# Altium footprint library BQ76922RSNR.PcbLib: 3 footprints
Each footprint in its own frame and in the unit in brackets; x right, y up, seen from the top. Pads: shape width x height; smd on the part's side, far side on the other; paste and mask are expansions set on the pad; w line width, h text height; cw(c..) or ccw(c..) is an arc to the next point about the centre after c.
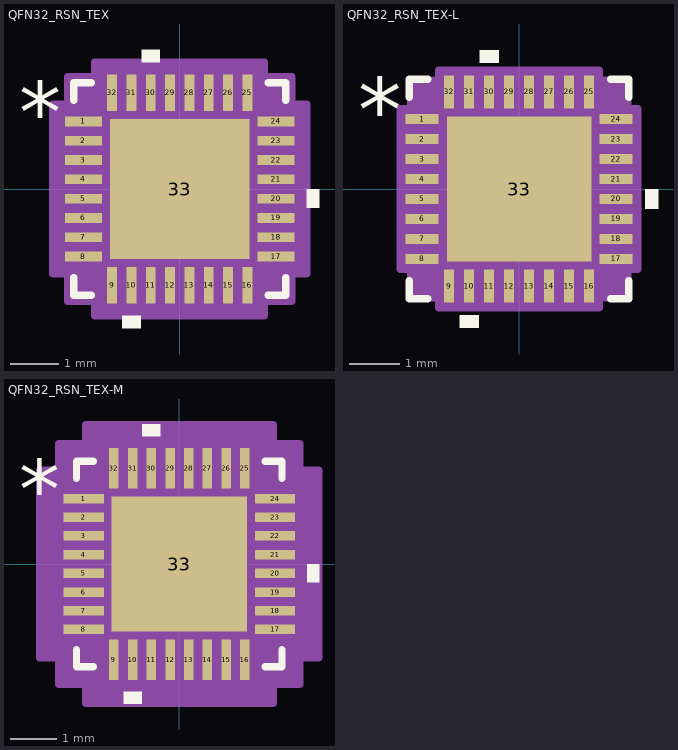
[diagram p0: the footprints below, top view; thin cyan lines are the x and y axes]

## QFN32_RSN_TEX [mil]
pads (33):
  rect 30x8 smd paste+0 mask+0: 1(-78.5,55.12) 2(-78.5,39.38) 3(-78.5,23.62) 4(-78.5,7.88) 5(-78.5,-7.88) 6(-78.5,-23.62) 7(-78.5,-39.38) 8(-78.5,-55.12) 17(78.5,-55.12) 18(78.5,-39.38) 19(78.5,-23.62) 20(78.5,-7.88) 21(78.5,7.88) 22(78.5,23.62) 23(78.5,39.38) 24(78.5,55.12)
  rect 8x30 smd paste+0 mask+0: 9(-55.12,-78.5) 10(-39.38,-78.5) 11(-23.62,-78.5) 12(-7.88,-78.5) 13(7.88,-78.5) 14(23.62,-78.5) 15(39.38,-78.5) 16(55.12,-78.5) 25(55.12,78.5) 26(39.38,78.5) 27(23.62,78.5) 28(7.88,78.5) 29(-7.88,78.5) 30(-23.62,78.5) 31(-39.38,78.5) 32(-55.12,78.5)
  rect 114x114 smd paste-57 mask+0: 33(0,0)
Top Overlay:
  region: -31.88,-103.5 -46.88,-103.5 -46.88,-113.5 -31.88,-113.5
  region: 103.5,-0.38 113.5,-0.38 113.5,-15.38 103.5,-15.38
  region: -16.12,103.5 -31.12,103.5 -31.12,113.5 -16.12,113.5
  lines w6: -86.5,-72.22 -86.5,-86.5 -72.22,-86.5 ; -86.5,72.22 -86.5,86.5 -72.22,86.5 ; 72.22,-86.5 86.5,-86.5 86.5,-72.22 ; 72.22,86.5 86.5,86.5 86.5,72.22
  text "*" at -131,38 h50
Top Paste:
  region: -3.94,53.06 -53.06,53.06 -53.06,3.94 -3.94,3.94
  region: -3.94,-3.94 -53.06,-3.94 -53.06,-53.06 -3.94,-53.06
  region: 53.06,53.06 3.94,53.06 3.94,3.94 53.06,3.94
  region: 53.06,-3.94 3.94,-3.94 3.94,-53.06 53.06,-53.06
Mechanical 13:
  lines w1: -81.5,31.5 -31.5,81.5 ; -81.5,-81.5 81.5,-81.5 ; -81.5,-81.5 -81.5,81.5 ; -81.5,-81.5 -81.5,-81.5 ; -81.5,-60.12 -81.5,-50.12 ; -81.5,-60.12 -81.5,-50.12 ; -81.5,-60.12 -81.5,-60.12 ; -81.5,-50.12 -81.5,-50.12 ; -81.5,-44.38 -81.5,-34.38 ; -81.5,-44.38 -81.5,-34.38 ; -81.5,-44.38 -81.5,-44.38 ; -81.5,-34.38 -81.5,-34.38 ; -81.5,-28.62 -81.5,-18.62 ; -81.5,-28.62 -81.5,-18.62 ; -81.5,-28.62 -81.5,-28.62 ; -81.5,-18.62 -81.5,-18.62 ; -81.5,-12.88 -81.5,-2.88 ; -81.5,-12.88 -81.5,-2.88 ; -81.5,-12.88 -81.5,-12.88 ; -81.5,-2.88 -81.5,-2.88 ; -81.5,2.88 -81.5,12.88 ; -81.5,2.88 -81.5,12.88 ; -81.5,2.88 -81.5,2.88 ; -81.5,12.88 -81.5,12.88 ; -81.5,18.62 -81.5,28.62 ; -81.5,18.62 -81.5,28.62 ; -81.5,18.62 -81.5,18.62 ; -81.5,28.62 -81.5,28.62 ; -81.5,34.38 -81.5,44.38 ; -81.5,34.38 -81.5,44.38 ; -81.5,34.38 -81.5,34.38 ; -81.5,44.38 -81.5,44.38 ; -81.5,50.12 -81.5,60.12 ; -81.5,50.12 -81.5,60.12 ; -81.5,50.12 -81.5,50.12 ; -81.5,60.12 -81.5,60.12 ; -81.5,81.5 81.5,81.5 ; -81.5,81.5 -81.5,81.5 ; -60.12,-81.5 -50.12,-81.5 ; -60.12,-81.5 -60.12,-81.5 ; -60.12,-81.5 -50.12,-81.5 ; -60.12,81.5 -50.12,81.5 ; -60.12,81.5 -50.12,81.5 ; -60.12,81.5 -60.12,81.5 ; -50.12,-81.5 -50.12,-81.5 ; -50.12,81.5 -50.12,81.5 ; -44.38,-81.5 -34.38,-81.5 ; -44.38,-81.5 -44.38,-81.5 ; -44.38,-81.5 -34.38,-81.5 ; -44.38,81.5 -34.38,81.5 ; -44.38,81.5 -34.38,81.5 ; -44.38,81.5 -44.38,81.5 ; -34.38,-81.5 -34.38,-81.5 ; -34.38,81.5 -34.38,81.5 ; -28.62,-81.5 -18.62,-81.5 ; -28.62,-81.5 -28.62,-81.5 ; -28.62,-81.5 -18.62,-81.5 ; -28.62,81.5 -18.62,81.5 ; -28.62,81.5 -18.62,81.5 ; -28.62,81.5 -28.62,81.5 ; -18.62,-81.5 -18.62,-81.5 ; -18.62,81.5 -18.62,81.5 ; -12.88,-81.5 -2.88,-81.5 ; -12.88,-81.5 -12.88,-81.5 ; -12.88,-81.5 -2.88,-81.5 ; -12.88,81.5 -2.88,81.5 ; -12.88,81.5 -2.88,81.5 ; -12.88,81.5 -12.88,81.5 ; -2.88,-81.5 -2.88,-81.5 ; -2.88,81.5 -2.88,81.5 ; 2.88,-81.5 12.88,-81.5 ; 2.88,-81.5 2.88,-81.5 ; 2.88,-81.5 12.88,-81.5 ; 2.88,81.5 12.88,81.5 ; 2.88,81.5 12.88,81.5 ; 2.88,81.5 2.88,81.5 ; 12.88,-81.5 12.88,-81.5 ; 12.88,81.5 12.88,81.5 ; 18.62,-81.5 28.62,-81.5 ; 18.62,-81.5 18.62,-81.5 ; 18.62,-81.5 28.62,-81.5 ; 18.62,81.5 28.62,81.5 ; 18.62,81.5 28.62,81.5 ; 18.62,81.5 18.62,81.5 ; 28.62,-81.5 28.62,-81.5 ; 28.62,81.5 28.62,81.5 ; 34.38,-81.5 44.38,-81.5 ; 34.38,-81.5 34.38,-81.5 ; 34.38,-81.5 44.38,-81.5 ; 34.38,81.5 44.38,81.5 ; 34.38,81.5 44.38,81.5 ; 34.38,81.5 34.38,81.5 ; 44.38,-81.5 44.38,-81.5 ; 44.38,81.5 44.38,81.5 ; 50.12,-81.5 60.12,-81.5 ; 50.12,-81.5 50.12,-81.5 ; 50.12,-81.5 60.12,-81.5 ; 50.12,81.5 60.12,81.5 ; 50.12,81.5 60.12,81.5 ; 50.12,81.5 50.12,81.5 ; 60.12,-81.5 60.12,-81.5 ; 60.12,81.5 60.12,81.5 ; 81.5,-81.5 81.5,-81.5 ; 81.5,-81.5 81.5,81.5 ; 81.5,-60.12 81.5,-50.12 ; 81.5,-60.12 81.5,-60.12 ; 81.5,-60.12 81.5,-50.12 ; 81.5,-50.12 81.5,-50.12 ; 81.5,-44.38 81.5,-34.38 ; 81.5,-44.38 81.5,-44.38 ; 81.5,-44.38 81.5,-34.38 ; 81.5,-34.38 81.5,-34.38 ; 81.5,-28.62 81.5,-18.62 ; 81.5,-28.62 81.5,-28.62 ; 81.5,-28.62 81.5,-18.62 ; 81.5,-18.62 81.5,-18.62 ; 81.5,-12.88 81.5,-2.88 ; 81.5,-12.88 81.5,-12.88 ; 81.5,-12.88 81.5,-2.88 ; 81.5,-2.88 81.5,-2.88 ; 81.5,2.88 81.5,12.88 ; 81.5,2.88 81.5,2.88 ; 81.5,2.88 81.5,12.88 ; 81.5,12.88 81.5,12.88 ; 81.5,18.62 81.5,28.62 ; 81.5,18.62 81.5,18.62 ; 81.5,18.62 81.5,28.62 ; 81.5,28.62 81.5,28.62 ; 81.5,34.38 81.5,44.38 ; 81.5,34.38 81.5,34.38 ; 81.5,34.38 81.5,44.38 ; 81.5,44.38 81.5,44.38 ; 81.5,50.12 81.5,60.12 ; 81.5,50.12 81.5,50.12 ; 81.5,50.12 81.5,60.12 ; 81.5,60.12 81.5,60.12 ; 81.5,81.5 81.5,81.5
  text "*" at -76,38 h50
Mechanical 15:
  region: -69.12,-91.5 -91.5,-91.5 -91.5,-69.12 -103.5,-69.12 -103.5,69.12 -91.5,69.12 -91.5,91.5 -69.12,91.5 -69.12,103.5 69.12,103.5 69.12,91.5 91.5,91.5 91.5,69.12 103.5,69.12 103.5,-69.12 91.5,-69.12 91.5,-91.5 69.12,-91.5 69.12,-103.5 -69.12,-103.5
  lines w6: -103.5,-69.12 -91.5,-69.12 -91.5,-91.5 -69.12,-91.5 -69.12,-103.5 69.12,-103.5 69.12,-91.5 91.5,-91.5 91.5,-69.12 103.5,-69.12 103.5,69.12 91.5,69.12 91.5,91.5 69.12,91.5 69.12,103.5 -69.12,103.5 -69.12,91.5 -91.5,91.5 -91.5,69.12 -103.5,69.12 -103.5,-69.12
3D body "QFN32_RSN_TEX.step": height 32.09, standoff 0, extent -81.5,-81.5 81.5,81.5

## QFN32_RSN_TEX-L [mil]
pads (33):
  rect 26x8 smd paste+0 mask+0: 1(-76.5,55.12) 2(-76.5,39.38) 3(-76.5,23.62) 4(-76.5,7.88) 5(-76.5,-7.88) 6(-76.5,-23.62) 7(-76.5,-39.38) 8(-76.5,-55.12) 17(76.5,-55.12) 18(76.5,-39.38) 19(76.5,-23.62) 20(76.5,-7.88) 21(76.5,7.88) 22(76.5,23.62) 23(76.5,39.38) 24(76.5,55.12)
  rect 8x26 smd paste+0 mask+0: 9(-55.12,-76.5) 10(-39.38,-76.5) 11(-23.62,-76.5) 12(-7.88,-76.5) 13(7.88,-76.5) 14(23.62,-76.5) 15(39.38,-76.5) 16(55.12,-76.5) 25(55.12,76.5) 26(39.38,76.5) 27(23.62,76.5) 28(7.88,76.5) 29(-7.88,76.5) 30(-23.62,76.5) 31(-39.38,76.5) 32(-55.12,76.5)
  rect 114x114 smd paste-57 mask+0: 33(0,0)
Top Overlay:
  region: -31.88,-99.5 -46.88,-99.5 -46.88,-109.5 -31.88,-109.5
  region: 99.5,-0.38 109.5,-0.38 109.5,-15.38 99.5,-15.38
  region: -16.12,99.5 -31.12,99.5 -31.12,109.5 -16.12,109.5
  lines w6: -86.5,-72.22 -86.5,-86.5 -72.22,-86.5 ; -86.5,72.22 -86.5,86.5 -72.22,86.5 ; 72.22,-86.5 86.5,-86.5 86.5,-72.22 ; 72.22,86.5 86.5,86.5 86.5,72.22
  text "*" at -127,38 h50
Top Paste:
  region: -3.94,53.06 -53.06,53.06 -53.06,3.94 -3.94,3.94
  region: -3.94,-3.94 -53.06,-3.94 -53.06,-53.06 -3.94,-53.06
  region: 53.06,53.06 3.94,53.06 3.94,3.94 53.06,3.94
  region: 53.06,-3.94 3.94,-3.94 3.94,-53.06 53.06,-53.06
Mechanical 13:
  lines w1: -81.5,31.5 -31.5,81.5 ; -81.5,-81.5 81.5,-81.5 ; -81.5,-81.5 -81.5,81.5 ; -81.5,-81.5 -81.5,-81.5 ; -81.5,-60.12 -81.5,-50.12 ; -81.5,-60.12 -81.5,-50.12 ; -81.5,-60.12 -81.5,-60.12 ; -81.5,-50.12 -81.5,-50.12 ; -81.5,-44.38 -81.5,-34.38 ; -81.5,-44.38 -81.5,-34.38 ; -81.5,-44.38 -81.5,-44.38 ; -81.5,-34.38 -81.5,-34.38 ; -81.5,-28.62 -81.5,-18.62 ; -81.5,-28.62 -81.5,-18.62 ; -81.5,-28.62 -81.5,-28.62 ; -81.5,-18.62 -81.5,-18.62 ; -81.5,-12.88 -81.5,-2.88 ; -81.5,-12.88 -81.5,-2.88 ; -81.5,-12.88 -81.5,-12.88 ; -81.5,-2.88 -81.5,-2.88 ; -81.5,2.88 -81.5,12.88 ; -81.5,2.88 -81.5,12.88 ; -81.5,2.88 -81.5,2.88 ; -81.5,12.88 -81.5,12.88 ; -81.5,18.62 -81.5,28.62 ; -81.5,18.62 -81.5,28.62 ; -81.5,18.62 -81.5,18.62 ; -81.5,28.62 -81.5,28.62 ; -81.5,34.38 -81.5,44.38 ; -81.5,34.38 -81.5,44.38 ; -81.5,34.38 -81.5,34.38 ; -81.5,44.38 -81.5,44.38 ; -81.5,50.12 -81.5,60.12 ; -81.5,50.12 -81.5,60.12 ; -81.5,50.12 -81.5,50.12 ; -81.5,60.12 -81.5,60.12 ; -81.5,81.5 81.5,81.5 ; -81.5,81.5 -81.5,81.5 ; -60.12,-81.5 -50.12,-81.5 ; -60.12,-81.5 -60.12,-81.5 ; -60.12,-81.5 -50.12,-81.5 ; -60.12,81.5 -50.12,81.5 ; -60.12,81.5 -50.12,81.5 ; -60.12,81.5 -60.12,81.5 ; -50.12,-81.5 -50.12,-81.5 ; -50.12,81.5 -50.12,81.5 ; -44.38,-81.5 -34.38,-81.5 ; -44.38,-81.5 -44.38,-81.5 ; -44.38,-81.5 -34.38,-81.5 ; -44.38,81.5 -34.38,81.5 ; -44.38,81.5 -34.38,81.5 ; -44.38,81.5 -44.38,81.5 ; -34.38,-81.5 -34.38,-81.5 ; -34.38,81.5 -34.38,81.5 ; -28.62,-81.5 -18.62,-81.5 ; -28.62,-81.5 -28.62,-81.5 ; -28.62,-81.5 -18.62,-81.5 ; -28.62,81.5 -18.62,81.5 ; -28.62,81.5 -18.62,81.5 ; -28.62,81.5 -28.62,81.5 ; -18.62,-81.5 -18.62,-81.5 ; -18.62,81.5 -18.62,81.5 ; -12.88,-81.5 -2.88,-81.5 ; -12.88,-81.5 -12.88,-81.5 ; -12.88,-81.5 -2.88,-81.5 ; -12.88,81.5 -2.88,81.5 ; -12.88,81.5 -2.88,81.5 ; -12.88,81.5 -12.88,81.5 ; -2.88,-81.5 -2.88,-81.5 ; -2.88,81.5 -2.88,81.5 ; 2.88,-81.5 12.88,-81.5 ; 2.88,-81.5 2.88,-81.5 ; 2.88,-81.5 12.88,-81.5 ; 2.88,81.5 12.88,81.5 ; 2.88,81.5 12.88,81.5 ; 2.88,81.5 2.88,81.5 ; 12.88,-81.5 12.88,-81.5 ; 12.88,81.5 12.88,81.5 ; 18.62,-81.5 28.62,-81.5 ; 18.62,-81.5 18.62,-81.5 ; 18.62,-81.5 28.62,-81.5 ; 18.62,81.5 28.62,81.5 ; 18.62,81.5 28.62,81.5 ; 18.62,81.5 18.62,81.5 ; 28.62,-81.5 28.62,-81.5 ; 28.62,81.5 28.62,81.5 ; 34.38,-81.5 44.38,-81.5 ; 34.38,-81.5 34.38,-81.5 ; 34.38,-81.5 44.38,-81.5 ; 34.38,81.5 44.38,81.5 ; 34.38,81.5 44.38,81.5 ; 34.38,81.5 34.38,81.5 ; 44.38,-81.5 44.38,-81.5 ; 44.38,81.5 44.38,81.5 ; 50.12,-81.5 60.12,-81.5 ; 50.12,-81.5 50.12,-81.5 ; 50.12,-81.5 60.12,-81.5 ; 50.12,81.5 60.12,81.5 ; 50.12,81.5 60.12,81.5 ; 50.12,81.5 50.12,81.5 ; 60.12,-81.5 60.12,-81.5 ; 60.12,81.5 60.12,81.5 ; 81.5,-81.5 81.5,-81.5 ; 81.5,-81.5 81.5,81.5 ; 81.5,-60.12 81.5,-50.12 ; 81.5,-60.12 81.5,-60.12 ; 81.5,-60.12 81.5,-50.12 ; 81.5,-50.12 81.5,-50.12 ; 81.5,-44.38 81.5,-34.38 ; 81.5,-44.38 81.5,-44.38 ; 81.5,-44.38 81.5,-34.38 ; 81.5,-34.38 81.5,-34.38 ; 81.5,-28.62 81.5,-18.62 ; 81.5,-28.62 81.5,-28.62 ; 81.5,-28.62 81.5,-18.62 ; 81.5,-18.62 81.5,-18.62 ; 81.5,-12.88 81.5,-2.88 ; 81.5,-12.88 81.5,-12.88 ; 81.5,-12.88 81.5,-2.88 ; 81.5,-2.88 81.5,-2.88 ; 81.5,2.88 81.5,12.88 ; 81.5,2.88 81.5,2.88 ; 81.5,2.88 81.5,12.88 ; 81.5,12.88 81.5,12.88 ; 81.5,18.62 81.5,28.62 ; 81.5,18.62 81.5,18.62 ; 81.5,18.62 81.5,28.62 ; 81.5,28.62 81.5,28.62 ; 81.5,34.38 81.5,44.38 ; 81.5,34.38 81.5,34.38 ; 81.5,34.38 81.5,44.38 ; 81.5,44.38 81.5,44.38 ; 81.5,50.12 81.5,60.12 ; 81.5,50.12 81.5,50.12 ; 81.5,50.12 81.5,60.12 ; 81.5,60.12 81.5,60.12 ; 81.5,81.5 81.5,81.5
  text "*" at -76,38 h50
Mechanical 15:
  region: -63.12,-85.5 -85.5,-85.5 -85.5,-63.12 -93.5,-63.12 -93.5,63.12 -85.5,63.12 -85.5,85.5 -63.12,85.5 -63.12,93.5 63.12,93.5 63.12,85.5 85.5,85.5 85.5,63.12 93.5,63.12 93.5,-63.12 85.5,-63.12 85.5,-85.5 63.12,-85.5 63.12,-93.5 -63.12,-93.5
  lines w6: -93.5,-63.12 -85.5,-63.12 -85.5,-85.5 -63.12,-85.5 -63.12,-93.5 63.12,-93.5 63.12,-85.5 85.5,-85.5 85.5,-63.12 93.5,-63.12 93.5,63.12 85.5,63.12 85.5,85.5 63.12,85.5 63.12,93.5 -63.12,93.5 -63.12,85.5 -85.5,85.5 -85.5,63.12 -93.5,63.12 -93.5,-63.12
3D body "QFN32_RSN_TEX.step": height 32.09, standoff 0, extent -81.5,-81.5 81.5,81.5

## QFN32_RSN_TEX-M [mil]
pads (33):
  rect 34x8 smd paste+0 mask+0: 1(-80.5,55.12) 2(-80.5,39.38) 3(-80.5,23.62) 4(-80.5,7.88) 5(-80.5,-7.88) 6(-80.5,-23.62) 7(-80.5,-39.38) 8(-80.5,-55.12) 17(80.5,-55.12) 18(80.5,-39.38) 19(80.5,-23.62) 20(80.5,-7.88) 21(80.5,7.88) 22(80.5,23.62) 23(80.5,39.38) 24(80.5,55.12)
  rect 8x34 smd paste+0 mask+0: 9(-55.12,-80.5) 10(-39.38,-80.5) 11(-23.62,-80.5) 12(-7.88,-80.5) 13(7.88,-80.5) 14(23.62,-80.5) 15(39.38,-80.5) 16(55.12,-80.5) 25(55.12,80.5) 26(39.38,80.5) 27(23.62,80.5) 28(7.88,80.5) 29(-7.88,80.5) 30(-23.62,80.5) 31(-39.38,80.5) 32(-55.12,80.5)
  rect 114x114 smd paste-57 mask+0: 33(0,0)
Top Overlay:
  region: -31.88,-107.5 -46.88,-107.5 -46.88,-117.5 -31.88,-117.5
  region: 107.5,-0.38 117.5,-0.38 117.5,-15.38 107.5,-15.38
  region: -16.12,107.5 -31.12,107.5 -31.12,117.5 -16.12,117.5
  lines w6: -86.5,-72.22 -86.5,-86.5 -72.22,-86.5 ; -86.5,72.22 -86.5,86.5 -72.22,86.5 ; 72.22,-86.5 86.5,-86.5 86.5,-72.22 ; 72.22,86.5 86.5,86.5 86.5,72.22
  text "*" at -135,38 h50
Top Paste:
  region: -3.94,53.06 -53.06,53.06 -53.06,3.94 -3.94,3.94
  region: -3.94,-3.94 -53.06,-3.94 -53.06,-53.06 -3.94,-53.06
  region: 53.06,53.06 3.94,53.06 3.94,3.94 53.06,3.94
  region: 53.06,-3.94 3.94,-3.94 3.94,-53.06 53.06,-53.06
Mechanical 13:
  lines w1: -81.5,31.5 -31.5,81.5 ; -81.5,-81.5 81.5,-81.5 ; -81.5,-81.5 -81.5,81.5 ; -81.5,-81.5 -81.5,-81.5 ; -81.5,-60.12 -81.5,-50.12 ; -81.5,-60.12 -81.5,-50.12 ; -81.5,-60.12 -81.5,-60.12 ; -81.5,-50.12 -81.5,-50.12 ; -81.5,-44.38 -81.5,-34.38 ; -81.5,-44.38 -81.5,-34.38 ; -81.5,-44.38 -81.5,-44.38 ; -81.5,-34.38 -81.5,-34.38 ; -81.5,-28.62 -81.5,-18.62 ; -81.5,-28.62 -81.5,-18.62 ; -81.5,-28.62 -81.5,-28.62 ; -81.5,-18.62 -81.5,-18.62 ; -81.5,-12.88 -81.5,-2.88 ; -81.5,-12.88 -81.5,-2.88 ; -81.5,-12.88 -81.5,-12.88 ; -81.5,-2.88 -81.5,-2.88 ; -81.5,2.88 -81.5,12.88 ; -81.5,2.88 -81.5,12.88 ; -81.5,2.88 -81.5,2.88 ; -81.5,12.88 -81.5,12.88 ; -81.5,18.62 -81.5,28.62 ; -81.5,18.62 -81.5,28.62 ; -81.5,18.62 -81.5,18.62 ; -81.5,28.62 -81.5,28.62 ; -81.5,34.38 -81.5,44.38 ; -81.5,34.38 -81.5,44.38 ; -81.5,34.38 -81.5,34.38 ; -81.5,44.38 -81.5,44.38 ; -81.5,50.12 -81.5,60.12 ; -81.5,50.12 -81.5,60.12 ; -81.5,50.12 -81.5,50.12 ; -81.5,60.12 -81.5,60.12 ; -81.5,81.5 81.5,81.5 ; -81.5,81.5 -81.5,81.5 ; -60.12,-81.5 -50.12,-81.5 ; -60.12,-81.5 -60.12,-81.5 ; -60.12,-81.5 -50.12,-81.5 ; -60.12,81.5 -50.12,81.5 ; -60.12,81.5 -50.12,81.5 ; -60.12,81.5 -60.12,81.5 ; -50.12,-81.5 -50.12,-81.5 ; -50.12,81.5 -50.12,81.5 ; -44.38,-81.5 -34.38,-81.5 ; -44.38,-81.5 -44.38,-81.5 ; -44.38,-81.5 -34.38,-81.5 ; -44.38,81.5 -34.38,81.5 ; -44.38,81.5 -34.38,81.5 ; -44.38,81.5 -44.38,81.5 ; -34.38,-81.5 -34.38,-81.5 ; -34.38,81.5 -34.38,81.5 ; -28.62,-81.5 -18.62,-81.5 ; -28.62,-81.5 -28.62,-81.5 ; -28.62,-81.5 -18.62,-81.5 ; -28.62,81.5 -18.62,81.5 ; -28.62,81.5 -18.62,81.5 ; -28.62,81.5 -28.62,81.5 ; -18.62,-81.5 -18.62,-81.5 ; -18.62,81.5 -18.62,81.5 ; -12.88,-81.5 -2.88,-81.5 ; -12.88,-81.5 -12.88,-81.5 ; -12.88,-81.5 -2.88,-81.5 ; -12.88,81.5 -2.88,81.5 ; -12.88,81.5 -2.88,81.5 ; -12.88,81.5 -12.88,81.5 ; -2.88,-81.5 -2.88,-81.5 ; -2.88,81.5 -2.88,81.5 ; 2.88,-81.5 12.88,-81.5 ; 2.88,-81.5 2.88,-81.5 ; 2.88,-81.5 12.88,-81.5 ; 2.88,81.5 12.88,81.5 ; 2.88,81.5 12.88,81.5 ; 2.88,81.5 2.88,81.5 ; 12.88,-81.5 12.88,-81.5 ; 12.88,81.5 12.88,81.5 ; 18.62,-81.5 28.62,-81.5 ; 18.62,-81.5 18.62,-81.5 ; 18.62,-81.5 28.62,-81.5 ; 18.62,81.5 28.62,81.5 ; 18.62,81.5 28.62,81.5 ; 18.62,81.5 18.62,81.5 ; 28.62,-81.5 28.62,-81.5 ; 28.62,81.5 28.62,81.5 ; 34.38,-81.5 44.38,-81.5 ; 34.38,-81.5 34.38,-81.5 ; 34.38,-81.5 44.38,-81.5 ; 34.38,81.5 44.38,81.5 ; 34.38,81.5 44.38,81.5 ; 34.38,81.5 34.38,81.5 ; 44.38,-81.5 44.38,-81.5 ; 44.38,81.5 44.38,81.5 ; 50.12,-81.5 60.12,-81.5 ; 50.12,-81.5 50.12,-81.5 ; 50.12,-81.5 60.12,-81.5 ; 50.12,81.5 60.12,81.5 ; 50.12,81.5 60.12,81.5 ; 50.12,81.5 50.12,81.5 ; 60.12,-81.5 60.12,-81.5 ; 60.12,81.5 60.12,81.5 ; 81.5,-81.5 81.5,-81.5 ; 81.5,-81.5 81.5,81.5 ; 81.5,-60.12 81.5,-50.12 ; 81.5,-60.12 81.5,-60.12 ; 81.5,-60.12 81.5,-50.12 ; 81.5,-50.12 81.5,-50.12 ; 81.5,-44.38 81.5,-34.38 ; 81.5,-44.38 81.5,-44.38 ; 81.5,-44.38 81.5,-34.38 ; 81.5,-34.38 81.5,-34.38 ; 81.5,-28.62 81.5,-18.62 ; 81.5,-28.62 81.5,-28.62 ; 81.5,-28.62 81.5,-18.62 ; 81.5,-18.62 81.5,-18.62 ; 81.5,-12.88 81.5,-2.88 ; 81.5,-12.88 81.5,-12.88 ; 81.5,-12.88 81.5,-2.88 ; 81.5,-2.88 81.5,-2.88 ; 81.5,2.88 81.5,12.88 ; 81.5,2.88 81.5,2.88 ; 81.5,2.88 81.5,12.88 ; 81.5,12.88 81.5,12.88 ; 81.5,18.62 81.5,28.62 ; 81.5,18.62 81.5,18.62 ; 81.5,18.62 81.5,28.62 ; 81.5,28.62 81.5,28.62 ; 81.5,34.38 81.5,44.38 ; 81.5,34.38 81.5,34.38 ; 81.5,34.38 81.5,44.38 ; 81.5,44.38 81.5,44.38 ; 81.5,50.12 81.5,60.12 ; 81.5,50.12 81.5,50.12 ; 81.5,50.12 81.5,60.12 ; 81.5,60.12 81.5,60.12 ; 81.5,81.5 81.5,81.5
  text "*" at -76,38 h50
Mechanical 15:
  region: -79.12,-101.5 -101.5,-101.5 -101.5,-79.12 -117.5,-79.12 -117.5,79.12 -101.5,79.12 -101.5,101.5 -79.12,101.5 -79.12,117.5 79.12,117.5 79.12,101.5 101.5,101.5 101.5,79.12 117.5,79.12 117.5,-79.12 101.5,-79.12 101.5,-101.5 79.12,-101.5 79.12,-117.5 -79.12,-117.5
  lines w6: -117.5,-79.12 -101.5,-79.12 -101.5,-101.5 -79.12,-101.5 -79.12,-117.5 79.12,-117.5 79.12,-101.5 101.5,-101.5 101.5,-79.12 117.5,-79.12 117.5,79.12 101.5,79.12 101.5,101.5 79.12,101.5 79.12,117.5 -79.12,117.5 -79.12,101.5 -101.5,101.5 -101.5,79.12 -117.5,79.12 -117.5,-79.12
3D body "QFN32_RSN_TEX.step": height 32.09, standoff 0, extent -81.5,-81.5 81.5,81.5